# Altium integrated library Hole.IntLib: 1 symbol
Pins are listed as number, name and electrical type; pins without a type are passive.

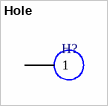
[diagram p0: symbol Hole]

## Hole
designator H?  (value not drawn)
footprint Hole 3.5
footprint Hole 2.5
pins: 1